# Altium footprint library Flex-pad-0.125-SMT.PcbLib: 1 footprints
Each footprint in its own frame and in the unit in brackets; x right, y up, seen from the top. Pads: shape width x height; smd on the part's side, far side on the other; paste and mask are expansions set on the pad; w line width, h text height; cw(c..) or ccw(c..) is an arc to the next point about the centre after c.
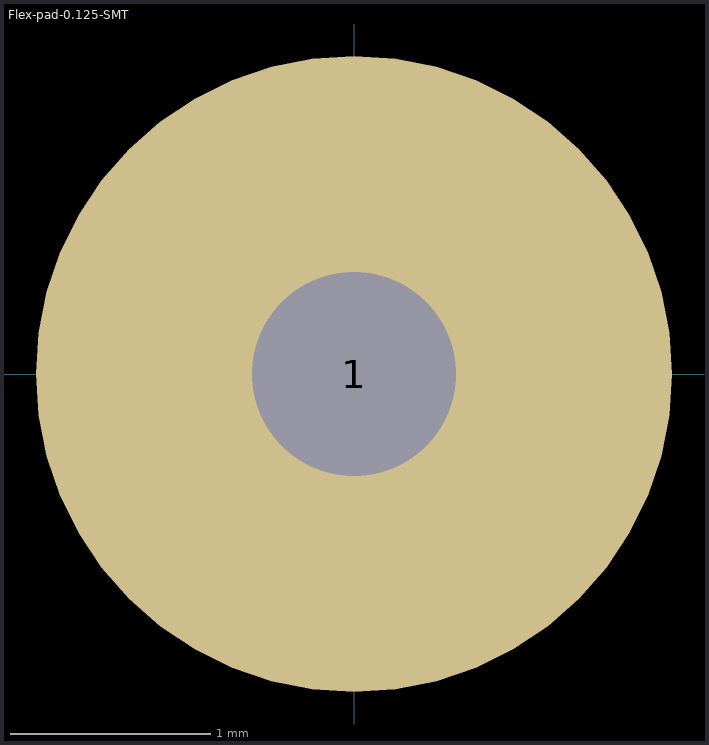
[diagram p0: the footprint, top view; thin cyan lines are the x and y axes]

## Flex-pad-0.125-SMT [mil]
pads (1):
  round 125 / inner round 125 / far side round 70 hole 40 mask-4: 1(0,0)
Top Paste:
  rectangle: 20,-10 55,10
  rectangle: -55,-10 -20,10
  region: -55.08,20.03 -54.33,22.5 -48.9,32.67 -41.58,41.58 -32.67,48.9 -22.5,54.33 -11.47,57.68 0,58.81 11.47,57.68 22.5,54.33 32.67,48.9 41.58,41.58 48.9,32.67 54.33,22.5 55.08,20.03 55,20
  region: -55.08,-20.03 -54.33,-22.5 -48.9,-32.67 -41.58,-41.58 -32.67,-48.9 -22.5,-54.33 -11.47,-57.68 0,-58.81 11.47,-57.68 22.5,-54.33 32.67,-48.9 41.58,-41.58 48.9,-32.67 54.33,-22.5 55.08,-20.03 55,-20